# Altium integrated library Intersil DSP 13-Bit.IntLib: 2 symbols
Pins are listed as number, name and electrical type; pins without a type are passive.

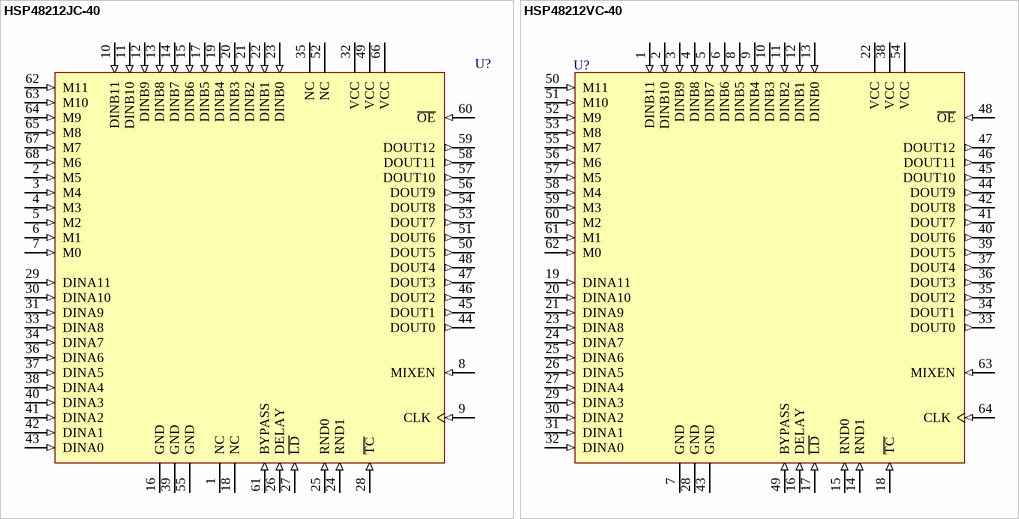
[diagram p0: symbols HSP48212JC-40 to HSP48212VC-40]

## HSP48212JC-40
designator U?
Digital Video Mixer; Published: 17-Jul-2002; LatestRevisionDate: 13-Apr-2006; LatestRevisionNote: IPC-7351 Footprint Added.; DatasheetVersion: May-1999; PackageVersion: Nov-1997; PackageReference: N68.95; Publisher: Altium Limited; PackageDescription: 68-Pin Leaded Chip Carrier 1.27 mm Pitch; Code_IPC: PLCC-68; ComponentLink1Description: Manufacturer Link; ComponentLink1URL: http://www.intersil.com/cda/home/
footprint N68.95_N (Leaded Chip Carrier, 68-Leads, Body 24x24mm, Pitch 1.27mm, IPC Medium Density)
footprint N68.95_L (Leaded Chip Carrier, 68-Leads, Body 24x24mm, Pitch 1.27mm, IPC High Density)
footprint N68.95_M (Leaded Chip Carrier, 68-Leads, Body 24x24mm, Pitch 1.27mm, IPC Low Density)
3D model HSP48212-N68_95 (68-Pin Leaded Chip Carrier 1.27 mm Pitch)
pins: 1 NC, 2 M5 (in), 3 M4 (in), 4 M3 (in), 5 M2 (in), 6 M1 (in), 7 M0 (in), 8 MIXEN (in), 9 CLK (in), 10 DINB11 (in), 11 DINB10 (in), 12 DINB9 (in), 13 DINB8 (in), 14 DINB7 (in), 15 DINB6 (in), 16 GND (power), 17 DINB5 (in), 18 NC, 19 DINB4 (in), 20 DINB3 (in), 21 DINB2 (in), 22 DINB1 (in), 23 DINB0 (in), 24 RND1 (in), 25 RND0 (in), 26 DELAY (in), 27 ~{LD} (in), 28 ~{TC} (in), 29 DINA11 (in), 30 DINA10 (in), 31 DINA9 (in), 32 VCC (power), 33 DINA8 (in), 34 DINA7 (in), 35 NC, 36 DINA6 (in), 37 DINA5 (in), 38 DINA4 (in), 39 GND (power), 40 DINA3 (in), 41 DINA2 (in), 42 DINA1 (in), 43 DINA0 (in), 44 DOUT0 (out), 45 DOUT1 (out), 46 DOUT2 (out), 47 DOUT3 (out), 48 DOUT4 (out), 49 VCC (power), 50 DOUT5 (out), 51 DOUT6 (out), 52 NC, 53 DOUT7 (out), 54 DOUT8 (out), 55 GND (power), 56 DOUT9 (out), 57 DOUT10 (out), 58 DOUT11 (out), 59 DOUT12 (out), 60 ~{OE} (in), 61 BYPASS (in), 62 M11 (in), 63 M10 (in), 64 M9 (in), 65 M8 (in), 66 VCC (power), 67 M7 (in), 68 M6 (in)

## HSP48212VC-40
designator U?
Digital Video Mixer; Published: 17-Jul-2002; LatestRevisionDate: 13-Apr-2006; LatestRevisionNote: IPC-7351 Footprint Added.; DatasheetVersion: May-1999; PackageVersion: Apr-1999; PackageReference: Q64.14x14; Publisher: Altium Limited; PackageDescription: 64-Pin Quad Flat Pack 0.8 mm Pitch; Code_IPC: QFP80P1720X1720-64; ComponentLink1Description: Manufacturer Link; ComponentLink1URL: http://www.intersil.com/cda/home/
footprint Q64.14x14_N (QFP, 64-Leads, Body 14x14mm, Pitch 0.8mm, IPC Medium Density)
footprint Q64.14x14_L (QFP, 64-Leads, Body 14x14mm, Pitch 0.8mm, IPC High Density)
footprint Q64.14x14_M (QFP, 64-Leads, Body 14x14mm, Pitch 0.8mm, IPC Low Density)
3D model HSP48212-Q64_14x14 (64-Pin Quad Flat Pack 0.8 mm Pitch)
pins: 1 DINB11 (in), 2 DINB10 (in), 3 DINB9 (in), 4 DINB8 (in), 5 DINB7 (in), 6 DINB6 (in), 7 GND (power), 8 DINB5 (in), 9 DINB4 (in), 10 DINB3 (in), 11 DINB2 (in), 12 DINB1 (in), 13 DINB0 (in), 14 RND1 (in), 15 RND0 (in), 16 DELAY (in), 17 ~{LD} (in), 18 ~{TC} (in), 19 DINA11 (in), 20 DINA10 (in), 21 DINA9 (in), 22 VCC (power), 23 DINA8 (in), 24 DINA7 (in), 25 DINA6 (in), 26 DINA5 (in), 27 DINA4 (in), 28 GND (power), 29 DINA3 (in), 30 DINA2 (in), 31 DINA1 (in), 32 DINA0 (in), 33 DOUT0 (out), 34 DOUT1 (out), 35 DOUT2 (out), 36 DOUT3 (out), 37 DOUT4 (out), 38 VCC (power), 39 DOUT5 (out), 40 DOUT6 (out), 41 DOUT7 (out), 42 DOUT8 (out), 43 GND (power), 44 DOUT9 (out), 45 DOUT10 (out), 46 DOUT11 (out), 47 DOUT12 (out), 48 ~{OE} (in), 49 BYPASS (in), 50 M11 (in), 51 M10 (in), 52 M9 (in), 53 M8 (in), 54 VCC (power), 55 M7 (in), 56 M6 (in), 57 M5 (in), 58 M4 (in), 59 M3 (in), 60 M2 (in), 61 M1 (in), 62 M0 (in), 63 MIXEN (in), 64 CLK (in)